# Altium footprint library ANTENNA.PcbLib: 5 footprints
Each footprint in its own frame and in the unit in brackets; x right, y up, seen from the top. Pads: shape width x height; smd on the part's side, far side on the other; paste and mask are expansions set on the pad; w line width, h text height; cw(c..) or ccw(c..) is an arc to the next point about the centre after c.
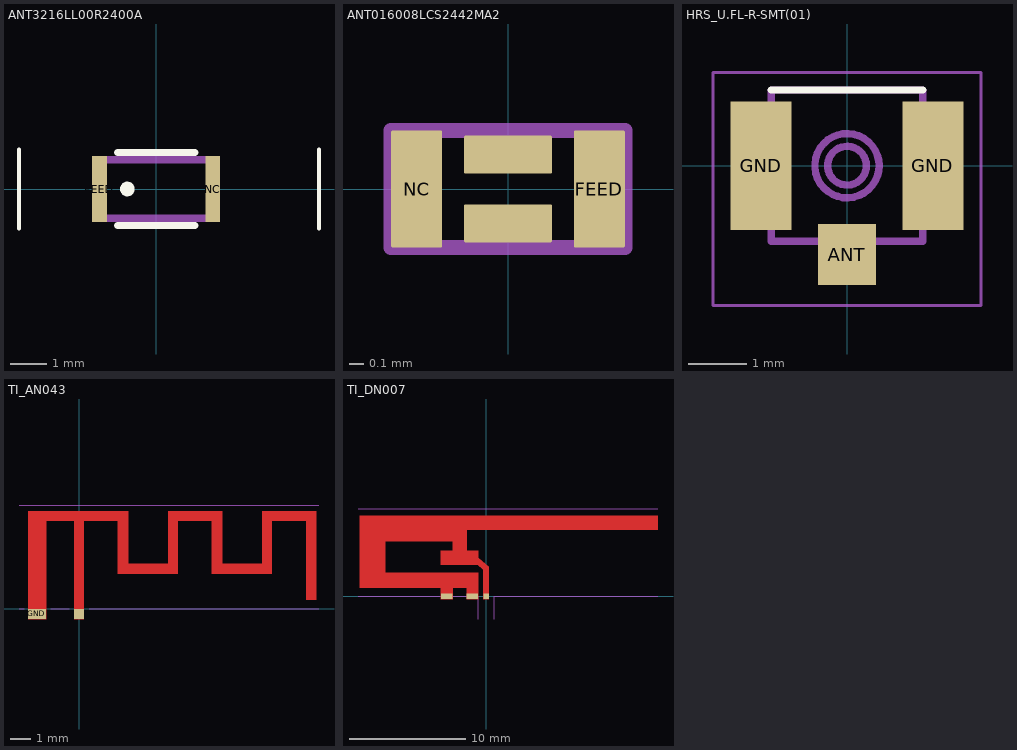
[diagram p0: the footprints below, top view; thin cyan lines are the x and y axes]

## ANT3216LL00R2400A [mm] "2.45GHz Bluetooth, ISM, Wi-Fi, Zigbee™ Chip RF Antenna 2.4GHz ~ 2.5GHz 5.05dBi Solder Surface Mount"
pads (2):
  rect 0.4x1.8 smd: FEED(-1.55,0) NC(1.55,0)
Top Overlay:
  circle w0.2: c-0.788,0 r0.1
  lines w0.1: -3.75,-1.079 -3.75,1.079 ; 4.45,-1.079 4.45,1.079
  lines w0.2: -1.05,-1 1.05,-1 ; -1.05,1 1.05,1
Top Courtyard:
  lines w0.2: -1.6,-0.8 1.6,-0.8 1.6,0.8 -1.6,0.8 -1.6,-0.8
3D body "ANT3216LL00R2400A.STEP": height 1.2, standoff 0, extent -1.6,-0.8 1.6,0.8

## ANT016008LCS2442MA2 [mm] "Multilayer antenna for 2400-2484MHz 1.6x0.8mm"
pads (4):
  rrect7% 0.35x0.8 smd mask+0.025: FEED(0.625,0) NC(-0.625,0)
  rrect7% 0.6x0.26 smd mask+0.025: ""(0,-0.235) ""(0,0.235)
Top Courtyard:
  lines w0.1: -0.8,-0.4 0.8,-0.4 0.8,0.4 -0.8,0.4 -0.8,-0.4
3D body "ANT016008LCS2442MA2.STEP": height 0.4, standoff 0, extent -0.8,-0.4 0.8,0.4

## HRS_U.FL-R-SMT(01) [mm]
pads (3):
  rect 1x1.05 smd: ANT(0,-1.525)
  rect 1.05x2.2 smd: GND(-1.475,0) GND(1.475,0)
Top Overlay:
  lines w0.127: -1.3,1.3 1.3,1.3
Top 3D Body:
  circle w0.127: c0,0 r0.332
  circle w0.127: c0,0 r0.552
  lines w0.127: -1.33,0.88 -1.33,0.87 -1.57,0.87 -1.57,-0.87 -1.3,-0.87 ; 1.34,-0.91 1.34,-0.9 ; 1.34,-0.87 1.57,-0.87 1.57,0.87 1.38,0.87 ; -1.3,-0.87 -1.3,-1.3 1.3,-1.3 1.3,1.3 -1.3,1.3 -1.3,-0.87
Top Courtyard:
  lines w0.05: -2.3,-2.4 -2.3,1.6 2.3,1.6 2.3,-2.4 -2.3,-2.4
3D body "U.FL-R-SMT-01.step": height 1.25, standoff 0, extent -1.5,-1.55 1.5,1.55

## TI_AN043 [mm] "Small Size 2.4 GHz PCB antenna"
pads (2):
  rect 0.5x0.5 smd paste+0 mask+0: ANT(0,-0.25)
  rect 0.9x0.5 smd paste+0 mask+0: GND(-2.1,-0.25)
Top Layer:
  region: -0.25,-0.5 -0.25,4.4 -1.65,4.4 -1.65,-0.5 -2.55,-0.5 -2.55,4.9 2.45,4.9 2.45,2.26 4.45,2.26 4.45,4.9 7.15,4.9 7.15,2.26 9.15,2.26 9.15,4.9 11.85,4.9 11.85,0.46 11.35,0.46 11.35,4.4 9.65,4.4 9.65,1.76 6.65,1.76 6.65,4.4 4.95,4.4 4.95,1.76 1.95,1.76 1.95,4.4 0.25,4.4 0.25,-0.5
Mechanical 3:
  lines w0.05: -3,0 -2.75,0 ; -3,5.2 12,5.2 ; -1.4,0 -0.5,0 ; 0.5,0 12,0

## TI_DN007 [mm] "2.4 GHz Inverted F Antenna"
pads (3):
  rect 0.46x0.46 smd paste+0 mask+0: ANT(0,0)
  rect 1x0.46 smd paste+0 mask+0: GND(-3.38,0) GND(-1.18,0)
Top Layer:
  region: -0.23,-0.254 -0.23,2.28 -0.73,2.69 -3.88,2.69 -3.88,3.9 -2.88,3.9 -2.88,4.7 -8.68,4.7 -8.68,2.03 -0.68,2.03 -0.68,-0.254 -1.68,-0.254 -1.68,0.7 -2.88,0.7 -2.88,-0.254 -3.88,-0.254 -3.88,0.74 -10.86,0.74 -10.86,6.91 14.72,6.91 14.72,5.7 -1.68,5.7 -1.68,3.9 -0.68,3.9 -0.68,3.29 0.23,2.53 0.23,-0.254
Mechanical 3:
  lines w0.1: -11,0 -0.68,0 -0.68,-2 ; -11,7.52 14.75,7.52 ; 0.68,-2 0.68,0 14.75,0